# EAGLE library part LMZ22010 (library JL)
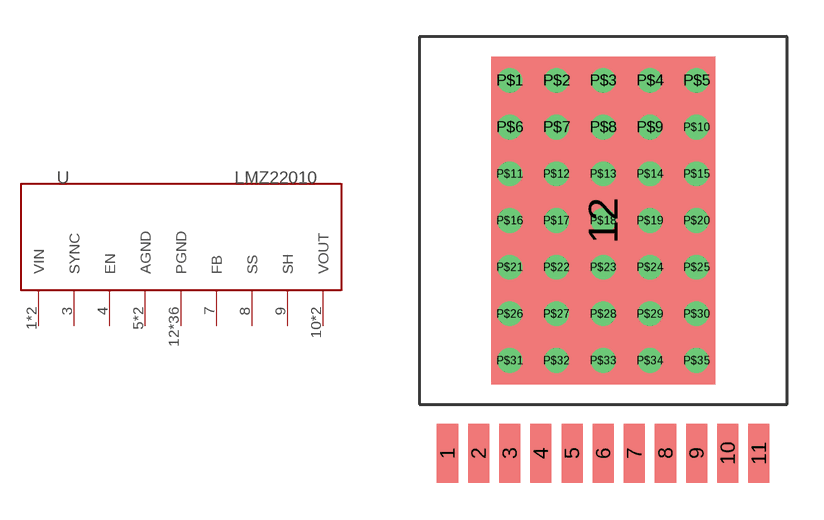
[diagram p4: symbol with the pads of TO-PMOD-11; footprint TO-PMOD-11]

Designator prefix -

## LMZ22010  [TO-PMOD-11]
1  VIN
2  VIN
3  SYNC
4  EN
5  AGND
6  AGND
7  FB
8  SS
9  SH
10  VOUT
11  VOUT
12  PGND
P$1  PGND
P$2  PGND
P$3  PGND
P$4  PGND
P$5  PGND
P$6  PGND
P$7  PGND
P$8  PGND
P$9  PGND
P$10  PGND
P$11  PGND
P$12  PGND
P$13  PGND
P$14  PGND
P$15  PGND
P$16  PGND
P$17  PGND
P$18  PGND
P$19  PGND
P$20  PGND
P$21  PGND
P$22  PGND
P$23  PGND
P$24  PGND
P$25  PGND
P$26  PGND
P$27  PGND
P$28  PGND
P$29  PGND
P$30  PGND
P$31  PGND
P$32  PGND
P$33  PGND
P$34  PGND
P$35  PGND

## Footprint TO-PMOD-11 (pad centres in mm)
smd 0.86 x 2.41: 1 -6.35,-9.5; 2 -5.08,-9.5; 3 -3.81,-9.5; 4 -2.54,-9.5; 5 -1.27,-9.5; 6 0,-9.5; 7 1.27,-9.5; 8 2.54,-9.5; 9 3.81,-9.5; 10 5.08,-9.5; 11 6.35,-9.5
smd 9.126 x 13.37: 12 0,0
drill 0.5: P$1 -3.81,5.715; P$2 -1.905,5.715; P$3 0,5.715; P$4 1.905,5.715; P$5 3.81,5.715; P$6 -3.81,3.81; P$7 -1.905,3.81; P$8 0,3.81; P$9 1.905,3.81; P$10 3.81,3.81; P$11 -3.81,1.905; P$12 -1.905,1.905; P$13 0,1.905; P$14 1.905,1.905; P$15 3.81,1.905; P$16 -3.81,0; P$17 -1.905,0; P$18 0,0; P$19 1.905,0; P$20 3.81,0; P$21 -3.81,-1.905; P$22 -1.905,-1.905; P$23 0,-1.905; P$24 1.905,-1.905; P$25 3.81,-1.905; P$26 -3.81,-3.81; P$27 -1.905,-3.81; P$28 0,-3.81; P$29 1.905,-3.81; P$30 3.81,-3.81; P$31 -3.81,-5.715; P$32 -1.905,-5.715; P$33 0,-5.715; P$34 1.905,-5.715; P$35 3.81,-5.715